# Altium schematic symbol library XCL101A301ER-G.SchLib: 1 symbol
Pins are listed as number, name and electrical type; pins without a type are passive.

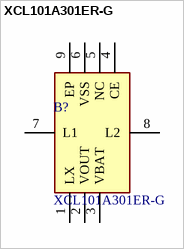
[diagram p0: symbol XCL101A301ER-G]

## XCL101A301ER-G
designator B?
Switching Voltage Regulators 100mA Inductor micro DCDC Converter; Manufacturer_Name: Torex; Geometry.Height: 1.04mm; Mouser Part Number: 865-XCL101A301ER-G; Mouser Price/Stock: https://www.mouser.co.uk/ProductDetail/Torex-Semiconductor/XCL101A301ER-G?qs=AsjdqWjXhJ8wOG80xjS4Aw%3D%3D; Manufacturer_Part_Number: XCL101A301ER-G; Datasheet Link: https://www.torexsemi.com/file/xcl101/XCL101.pdf
footprint XCL101A301ERG
pins: 1 LX, 2 VOUT, 3 VBAT, 4 CE, 5 NC, 6 VSS, 7 L1, 8 L2, 9 EP